# EAGLE library part ARDUINO_UNO (library ARDUINO_UNO)
Arduino UNO Created by Aadesh Borate Features : Microcontroller ATmega328P Operating Voltage (logic level) = 5 V Input Voltage (Recommended) = 7-12 V Digital I/O Pins : 14 (out of which 6 provide PWM Output) Analog Input Pins = 6 DC Current per I/O Pin = 20 mA Flash Memory 32 KB (ATmega328) of which 0.5 KB KB used by bootloader SRAM: 2 KB (ATmega328) EEPROM: 1 KB (ATmega328) Clock Speed: 16 MHz Dimensions = 68.6 mm × 53.4 mm Buy this module at Robu.in <https://robu.in/product/arduino-uno-r3/> <
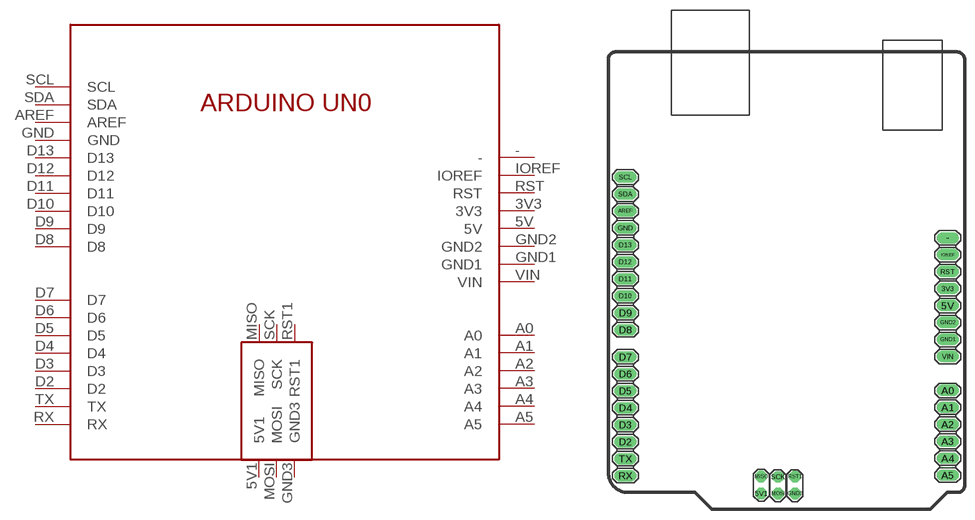
[diagram p0: symbol with the pads of ARDUINO_UNO; footprint ARDUINO_UNO]

Designator prefix -

## ARDUINO_UNO  [ARDUINO_UNO]
3V3  3V3
5V  5V
5V1  5V1
-  -
A0  A0
A1  A1
A2  A2
A3  A3
A4  A4
A5  A5
AREF  AREF
D2  D2
D3  D3
D4  D4
D5  D5
D6  D6
D7  D7
D8  D8
D9  D9
D10  D10
D11  D11
D12  D12
D13  D13
GND  GND
GND1  GND1
GND2  GND2
GND3  GND3
IOREF  IOREF
MISO  MISO
MOSI  MOSI
RST  RST
RST1  RST1
RX  RX
SCK  SCK
SCL  SCL
SDA  SDA
TX  TX
VIN  VIN

## Footprint ARDUINO_UNO (pad centres in mm)
Arduino UNO Created by Aadesh Borate Features : Microcontroller ATmega328P Operating Voltage (logic level) = 5 V Input Voltage (Recommended) = 7-12 V Digital I/O Pins : 14 (out of which 6 provide PWM Output) Analog Input Pins = 6 DC Current per I/O Pin = 20 mA Flash Memory 32 KB (ATmega328) of which 0.5 KB KB used by bootloader SRAM: 2 KB (ATmega328) EEPROM: 1 KB (ATmega328) Clock Speed: 16 MHz Dimensions = 68.6 mm × 53.4 mm Buy this module at Robu.in <https://robu.in/product/arduino-uno-r3/> <
drill 1.13 long: 3V3 24.74,0.864; 5V 24.74,-1.676; - 24.74,8.484; A0 24.74,-14.376; A1 24.74,-16.916; A2 24.74,-19.456; A3 24.74,-21.996; A4 24.74,-24.536; A5 24.74,-27.076; AREF -23.52,12.497; D2 -23.52,-22.047; D3 -23.52,-19.507; D4 -23.52,-16.967; D5 -23.52,-14.427; D6 -23.52,-11.887; D7 -23.52,-9.347; D8 -23.52,-5.283; D9 -23.52,-2.743; D10 -23.52,-0.203; D11 -23.52,2.337; D12 -23.52,4.877; D13 -23.52,7.417; GND -23.52,9.957; GND1 24.74,-6.756; GND2 24.74,-4.216; IOREF 24.74,5.944; RST 24.74,3.404; RX -23.52,-27.127; SCL -23.52,17.577; SDA -23.52,15.037; TX -23.52,-24.587; VIN 24.74,-9.296
drill 1.13 octagon: 5V1 -3.175,-29.82; GND3 1.88,-29.82; MISO -3.175,-27.28; MOSI -0.66,-29.82; RST1 1.88,-27.28; SCK -0.66,-27.305